# Altium schematic symbol library NLSX4401DFT2G.SchLib: 1 symbol
Pins are listed as number, name and electrical type; pins without a type are passive.

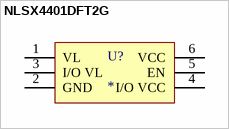
[diagram p0: symbol NLSX4401DFT2G]

## NLSX4401DFT2G
designator U?
pins: 1 VL, 2 GND, 3 I/O VL, 4 I/O VCC, 5 EN, 6 VCC